# Altium schematic symbol library COMMON-SMD.SchLib: 11 symbols
Pins are listed as number, name and electrical type; pins without a type are passive.

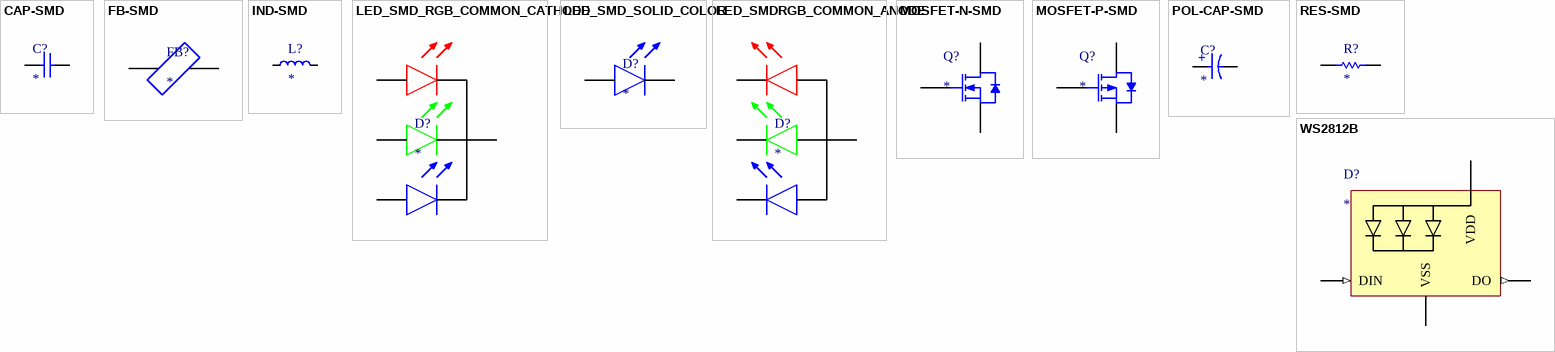
[diagram p0: symbols CAP-SMD to WS2812B]

## CAP-SMD
designator C?
SMD Capacitor
footprint C0402-L
footprint C0603-L
footprint C0805-L
footprint C1206-L
pins: 1, 2

## FB-SMD
designator FB?
SMD Ferrite Bead
footprint FB0402-L
footprint FB0603-L
footprint FB0805-L
footprint FB1206-L
pins: 1, 2

## IND-SMD
designator L?
SMD Inductor
footprint L0402-L
pins: 1, 2

## LED_SMD_RGB_COMMON_CATHODE
designator D?
pins: 1, 2, 3, 4

## LED_SMD_SOLID_COLOR
designator D?
footprint LED0402-AMBER
footprint LED0402-GREEN
footprint LED0402-BLUE
footprint LED0402-RED
footprint LED0402-YELLOW
footprint LED0603-AMBER
footprint LED0603-GREEN
footprint LED0603-BLUE
footprint LED0603-RED
footprint LED0603-YELLOW
footprint LED0805-GREEN
footprint LED0805-AMBER
footprint LED0805-BLUE
footprint LED0805-RED
footprint LED0805-YELLOW
pins: 1, 2

## LED_SMDRGB_COMMON_ANODE
designator D?
pins: 1, 2, 3, 4

## MOSFET-N-SMD
designator Q?
SMD MOSFET N Channel
footprint SOT-23-3
pins: 1 GATE, 2 SOURCE, 3 DRAIN

## MOSFET-P-SMD
designator Q?
SMD MOSFET P Channel
footprint SOT-23-3
pins: 1 GATE, 2 SOURCE, 3 DRAIN

## POL-CAP-SMD
designator C?
SMD Polarized Electrolytic Capacitor
pins: 1, 2
text: +

## RES-SMD
designator R?
SMD Resistor
footprint R0201-L
footprint R0402-L
footprint R0603-L
footprint R0805-L
footprint R1206-L
footprint R2512-L
pins: 1, 2

## WS2812B
designator D?
footprint WS2812B-5050
pins: 1 VDD, 2 DO (out), 3 VSS, 4 DIN (in)